# EAGLE library part DSPIC33EP128MC202 (library stepOSP)
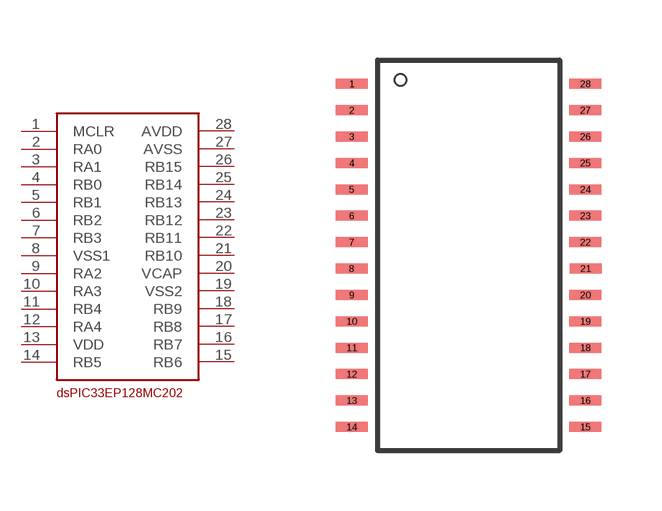
[diagram p0: symbol with the pads of TSSOP28; footprint TSSOP28]

Designator prefix -

## DSPIC33EP128MC202  [TSSOP28]
1  MCLR
2  RA0
3  RA1
4  RB0
5  RB1
6  RB2
7  RB3
8  VSS1
9  RA2
10  RA3
11  RB4
12  RA4
13  VDD
14  RB5
15  RB6
16  RB7
17  RB8
18  RB9
19  VSS2
20  VCAP
21  RB10
22  RB11
23  RB12
24  RB13
25  RB14
26  RB15
27  AVSS
28  AVDD

## Footprint TSSOP28 (pad centres in mm)
smd 0.8 x 0.25: 1 -2.921,4.623; 2 -2.921,3.962; 3 -2.921,3.302; 4 -2.921,2.642; 5 -2.921,1.981; 6 -2.921,1.321; 7 -2.921,0.66; 8 -2.927,0; 9 -2.921,-0.66; 10 -2.921,-1.321; 11 -2.921,-1.981; 12 -2.921,-2.642; 13 -2.921,-3.302; 14 -2.921,-3.962; 15 2.921,-3.962; 16 2.921,-3.302; 17 2.921,-2.642; 18 2.921,-1.981; 19 2.921,-1.321; 20 2.921,-0.66; 21 2.927,0; 22 2.921,0.66; 23 2.921,1.321; 24 2.921,1.981; 25 2.921,2.642; 26 2.921,3.302; 27 2.921,3.962; 28 2.921,4.623